# Altium footprint library PASSIVE_THD.PCBLIB: 248 footprints (part 4 of 16)
Each footprint in its own frame and in the unit in brackets; x right, y up, seen from the top. Pads: shape width x height; smd on the part's side, far side on the other; paste and mask are expansions set on the pad; w line width, h text height; cw(c..) or ccw(c..) is an arc to the next point about the centre after c.
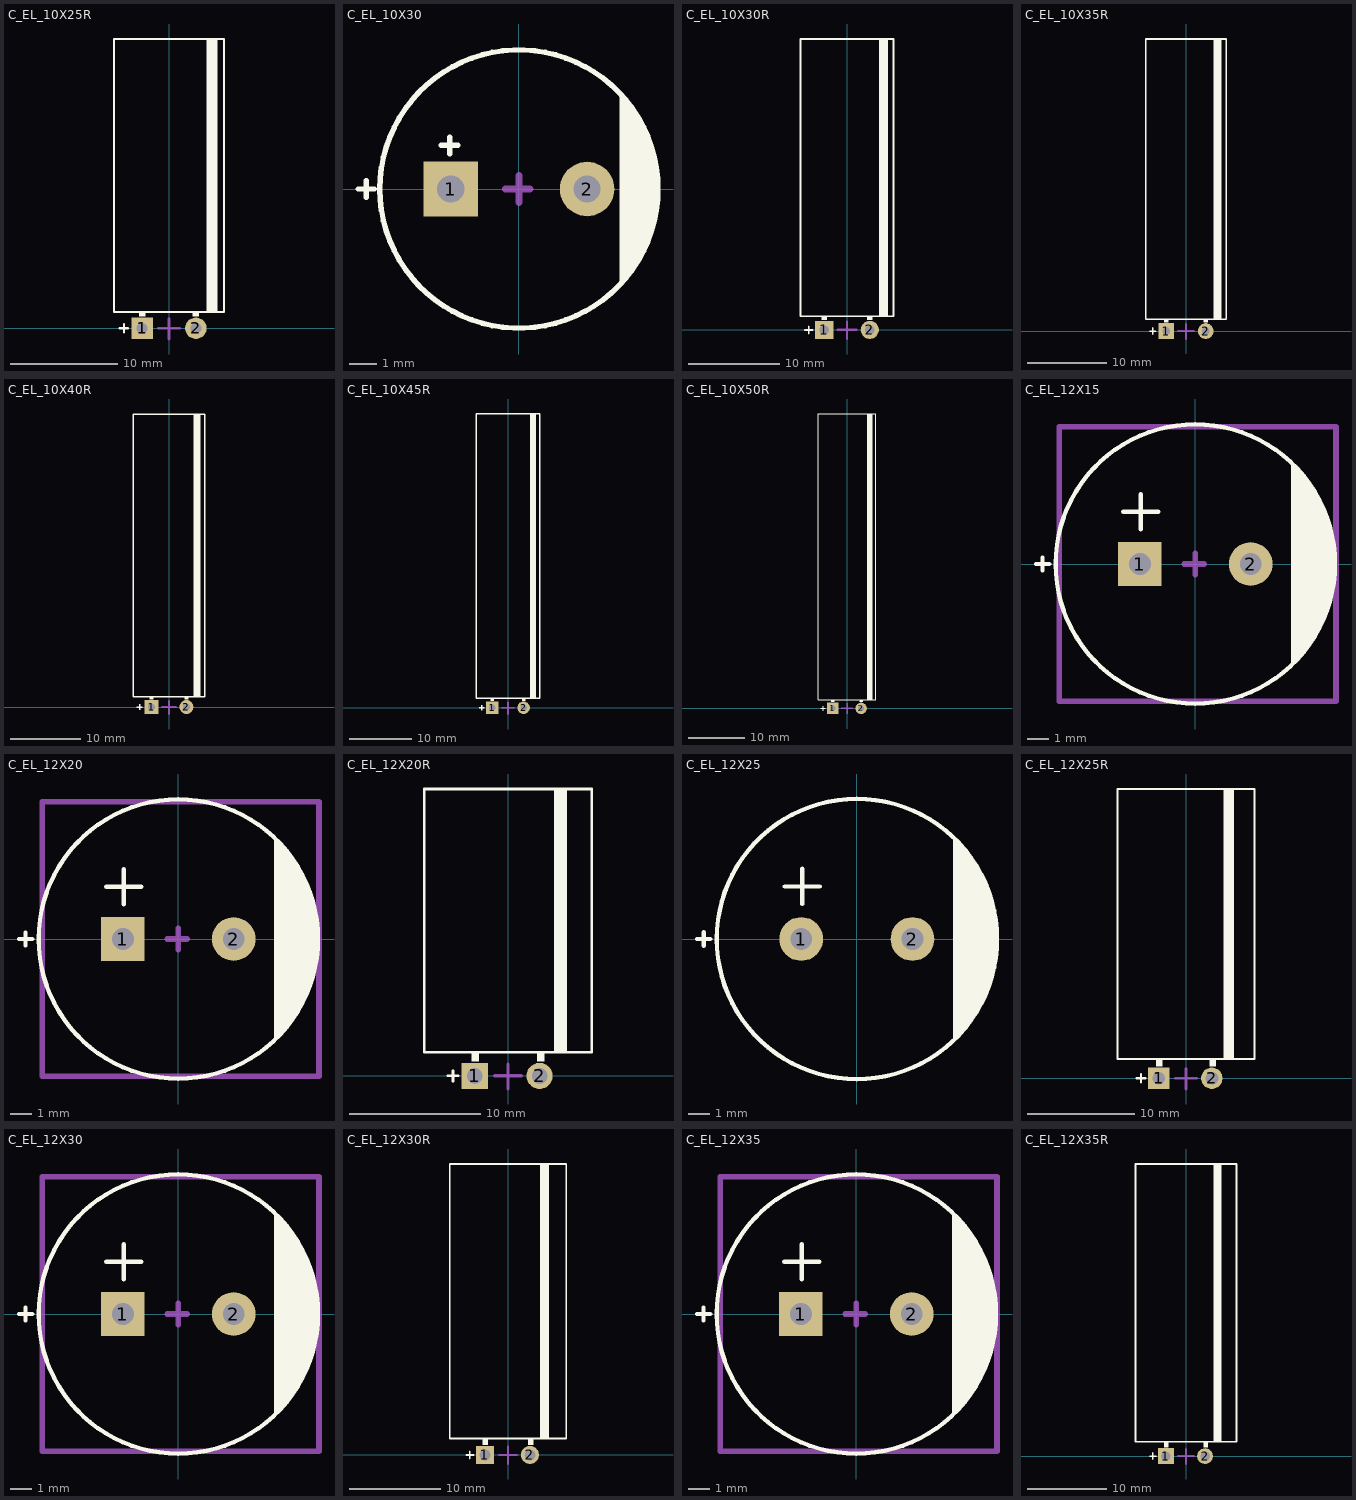
[diagram p3: the footprints below, top view; thin cyan lines are the x and y axes]

## C_EL_10X25R [mm] "Capacitor Electrolythic, D10X25H pitch: 5mm"
height 40
pads (2):
  rect 2x2 hole 1: 1(-2.5,0)
  round 2 hole 1: 2(2.5,0)
TopOverlay:
  rectangle: 3.5,1.5 4.5,26.9
  rectangle: -2.8,1.1 -2.2,1.5
  region: 2.8,1.5 2.2,1.5 2.2,1.1 2.8,1.1
  lines w0.2: -4.6,0 -3.8,0 ; -4.2,-0.4 -4.2,0.4 ; -5.1,1.5 5.1,1.5 5.1,26.9 -5.1,26.9 -5.1,1.5
Mechanical13:
  lines w0.254: -1,0 1,0 ; 0,-1 0,0.9
3D body "cap_el_horizontal_d10_h25_p5_w0.6.stp": height 10.09, standoff -3, extent -5,-0.3 5.003,26.81

## C_EL_10X30 [mm] "Capacitor Electrolythic, D10X30H pitch: 5mm"
height 30
pads (2):
  rect 2x2 hole 1: 1(-2.5,0)
  round 2 hole 1: 2(2.5,0)
TopOverlay:
  circle w0.2: c0,0 r5.1
  region: 3.7,-3.38 3.866,-3.214 4.164,-2.851 4.425,-2.46 4.646,-2.046 4.826,-1.612 4.962,-1.163 5.054,-0.702 5.1,-0.235 5.1,0 3.7,0
  region: 3.7,3.38 3.866,3.214 4.164,2.851 4.425,2.46 4.646,2.046 4.826,1.612 4.962,1.163 5.054,0.702 5.1,0.235 5.1,0 3.7,0
  lines w0.2: -5.9,0 -5.3,0 ; -5.6,-0.3 -5.6,0.3 ; -2.84,1.6 -2.24,1.6 ; -2.54,1.3 -2.54,1.9
Mechanical13:
  lines w0.254: -0.5,0 0.4,0 ; 0,-0.5 0,0.5
3D body "User Library-Cap-EL(10x30-5)T.STEP": height 30.5, standoff -3.5, extent -5,-4.997 5.002,4.998

## C_EL_10X30R [mm] "Capacitor Electrolythic, D10X30H pitch: 5mm"
height 40
pads (2):
  rect 2x2 hole 1: 1(-2.5,0)
  round 2 hole 1: 2(2.5,0)
TopOverlay:
  rectangle: 3.5,1.5 4.5,31.9
  rectangle: -2.8,1.1 -2.2,1.5
  region: 2.8,1.5 2.2,1.5 2.2,1.1 2.8,1.1
  lines w0.2: -4.6,0 -3.8,0 ; -4.2,-0.4 -4.2,0.4 ; -5.1,1.5 5.1,1.5 5.1,31.9 -5.1,31.9 -5.1,1.5
Mechanical13:
  lines w0.254: -1,0 1,0 ; 0,-1 0,0.9
3D body "cap_el_horizontal_d10_h30_p5_w0.6.stp": height 10.09, standoff -3, extent -4.99,-0.3 5.003,31.81

## C_EL_10X35R [mm] "Capacitor Electrolythic, D10X35H pitch: 5mm"
height 40
pads (2):
  rect 2x2 hole 1: 1(-2.5,0)
  round 2 hole 1: 2(2.5,0)
TopOverlay:
  rectangle: 3.5,1.5 4.5,36.9
  rectangle: -2.8,1.1 -2.2,1.5
  region: 2.8,1.5 2.2,1.5 2.2,1.1 2.8,1.1
  lines w0.2: -4.6,0 -3.8,0 ; -4.2,-0.4 -4.2,0.4 ; -5.1,1.5 5.1,1.5 5.1,36.9 -5.1,36.9 -5.1,1.5
Mechanical13:
  lines w0.254: -1,0 1,0 ; 0,-1 0,0.9
3D body "cap_el_horizontal_d10_h35_p5_w0.6.stp": height 10.1, standoff -3, extent -4.99,-0.3 5.003,36.81

## C_EL_10X40R [mm] "Capacitor Electrolythic, D10X40H pitch: 5mm"
height 40
pads (2):
  rect 2x2 hole 1: 1(-2.5,0)
  round 2 hole 1: 2(2.5,0)
TopOverlay:
  region: 2.8,1.5 2.2,1.5 2.2,1.1 2.8,1.1
  rectangle: -2.8,1.1 -2.2,1.5
  rectangle: 3.5,1.5 4.5,41.9
  lines w0.2: -4.6,0 -3.8,0 ; -4.2,-0.4 -4.2,0.4 ; -5.1,1.5 -5.1,41.9 5.1,41.9 5.1,1.5 -5.1,1.5
Mechanical13:
  lines w0.254: -1,0 1,0 ; 0,-1 0,0.9
3D body "cap_el_horizontal_d10_h40_p5_w0.6.stp": height 10.1, standoff -3, extent -4.99,-0.3 5.01,41.81

## C_EL_10X45R [mm] "Capacitor Electrolythic, D10X45H pitch: 5mm"
height 40
pads (2):
  rect 2x2 hole 1: 1(-2.5,0)
  round 2 hole 1: 2(2.5,0)
TopOverlay:
  rectangle: 3.5,1.5 4.5,46.9
  rectangle: -2.8,1.1 -2.2,1.5
  region: 2.8,1.5 2.2,1.5 2.2,1.1 2.8,1.1
  lines w0.2: -4.6,0 -3.8,0 ; -4.2,-0.4 -4.2,0.4 ; -5.1,1.5 5.1,1.5 5.1,46.9 -5.1,46.9 -5.1,1.5
Mechanical13:
  lines w0.254: -1,0 1,0 ; 0,-1 0,0.9
3D body "cap_el_horizontal_d10_h45_p5_w0.6.stp": height 10.09, standoff -3, extent -4.99,-0.3 5.01,46.81

## C_EL_10X50R [mm] "Capacitor Electrolythic, D10X50H pitch: 5mm"
height 40
pads (2):
  rect 2x2 hole 1: 1(-2.5,0)
  round 2 hole 1: 2(2.5,0)
TopOverlay:
  rectangle: 3.5,1.5 4.5,51.9
  rectangle: -2.8,1.1 -2.2,1.5
  region: 2.8,1.5 2.2,1.5 2.2,1.1 2.8,1.1
  lines w0.2: -4.6,0 -3.8,0 ; -4.2,-0.4 -4.2,0.4 ; -5.1,1.5 5.1,1.5 5.1,51.9 -5.1,51.9 -5.1,1.5
Mechanical13:
  lines w0.254: -1,0 1,0 ; 0,-1 0,0.9
3D body "cap_el_horizontal_d10_h50_p5_w0.6.stp": height 10.1, standoff -3, extent -5,-0.3 5.01,51.81

## C_EL_12X15 [mm] "Capacitor Electrolythic, D12.5X15H pitch: 5mm"
height 20
pads (2):
  rect 2x2 hole 1: 1(-2.54,0)
  round 2 hole 1: 2(2.54,0)
TopOverlay:
  circle w0.2: c0,0 r6.4
  region: 4.4,4.7 4.631,4.469 5.045,3.964 5.408,3.421 5.716,2.845 5.966,2.242 6.155,1.617 6.283,0.976 6.347,0.327 6.347,0 4.4,0
  region: 4.4,-4.7 4.631,-4.469 5.045,-3.964 5.408,-3.421 5.716,-2.845 5.966,-2.242 6.155,-1.617 6.283,-0.976 6.347,-0.327 6.347,0 4.4,0
  lines w0.2: -7.3,0 -6.7,0 ; -7,-0.3 -7,0.3 ; -3.3,2.4 -1.7,2.4 ; -2.5,1.6 -2.5,3.2
Mechanical13:
  lines w0.254: -0.5,0 0.4,0 ; 0,-0.5 0,0.5 ; -6.225,-6.3 -6.225,6.3 6.45,6.3 6.45,-6.3 -6.225,-6.3
3D body "CAP_RAD_D12.5x15_POL_BK.stp": height 16.5, standoff -2.5, extent -6.488,-6.49 6.5,6.491

## C_EL_12X20 [mm] "Capacitor Electrolythic, D12.5X20H pitch: 5mm"
height 20
pads (2):
  rect 2x2 hole 1: 1(-2.54,0)
  round 2 hole 1: 2(2.54,0)
TopOverlay:
  circle w0.2: c0,0 r6.4
  region: 4.4,4.7 4.631,4.469 5.045,3.964 5.408,3.421 5.716,2.845 5.966,2.242 6.155,1.617 6.283,0.976 6.347,0.327 6.347,0 4.4,0
  region: 4.4,-4.7 4.631,-4.469 5.045,-3.964 5.408,-3.421 5.716,-2.845 5.966,-2.242 6.155,-1.617 6.283,-0.976 6.347,-0.327 6.347,0 4.4,0
  lines w0.2: -7.3,0 -6.7,0 ; -7,-0.3 -7,0.3 ; -3.3,2.4 -1.7,2.4 ; -2.5,1.6 -2.5,3.2
Mechanical13:
  lines w0.254: -0.5,0 0.4,0 ; 0,-0.5 0,0.5 ; -6.225,-6.3 -6.225,6.3 6.45,6.3 6.45,-6.3 -6.225,-6.3
3D body "User Library-Cap-EL(12_5x20-5)T.STEP": height 20.7, standoff -3.3, extent -6.25,-6.241 6.252,6.241

## C_EL_12X20R [mm] "Capacitor Electrolythic, D12.5X20H pitch: 5mm"
height 40
pads (2):
  rect 2x2 hole 1.2: 1(-2.54,0)
  round 2 hole 1.2: 2(2.413,0)
TopOverlay:
  region: 2.8,1.8 2.2,1.8 2.2,1.1 2.8,1.1
  rectangle: -2.8,1.1 -2.2,1.8
  rectangle: 3.5,1.8 4.5,21.9
  lines w0.2: -4.6,0 -3.8,0 ; -4.2,-0.4 -4.2,0.4 ; -6.4,1.8 -6.4,21.9 6.4,21.9 6.4,1.8 -6.4,1.8
Mechanical13:
  lines w0.254: -1,0 1,0 ; 0,-1 0,0.9
3D body "cap_el_horizontal_d12.5_h20_p5_w0.6.stp": height 12.6, standoff -3, extent -6.242,-0.3 6.26,21.81

## C_EL_12X25 [mm] "Cap Elec, D12.0X25.0H pitch: 5.0mm, RB.2/.5"
pads (2):
  round 2 hole 1: 1(-2.54,0) 2(2.54,0)
TopOverlay:
  circle w0.2: c0,0 r6.4
  region: 4.4,-4.7 4.631,-4.469 5.045,-3.964 5.408,-3.421 5.716,-2.845 5.966,-2.242 6.155,-1.617 6.283,-0.976 6.347,-0.327 6.347,0 4.4,0
  region: 4.4,4.7 4.631,4.469 5.045,3.964 5.408,3.421 5.716,2.845 5.966,2.242 6.155,1.617 6.283,0.976 6.347,0.327 6.347,0 4.4,0
  lines w0.2: -7.3,0 -6.7,0 ; -7,-0.3 -7,0.3 ; -3.3,2.4 -1.7,2.4 ; -2.5,1.6 -2.5,3.2
3D body "User Library-Cap-EL(12_5x25-5)T.step": height 25.8, standoff -3.2, extent -6.25,-6.273 6.252,6.211

## C_EL_12X25R [mm] "Capacitor Electrolythic, D12.5X25H pitch: 5mm"
height 40
pads (2):
  rect 2x2 hole 1.2: 1(-2.54,0)
  round 2 hole 1.2: 2(2.413,0)
TopOverlay:
  region: 2.8,1.8 2.2,1.8 2.2,1.1 2.8,1.1
  rectangle: -2.8,1.1 -2.2,1.8
  rectangle: 3.5,1.8 4.5,27
  lines w0.2: -4.6,0 -3.8,0 ; -4.2,-0.4 -4.2,0.4 ; -6.4,1.8 -6.4,27 6.4,27 6.4,1.8 -6.4,1.8
Mechanical13:
  lines w0.254: -1,0 1,0 ; 0,-1 0,0.9
3D body "cap_el_horizontal_d12.5_h25_p5_w0.6.stp": height 12.59, standoff -3, extent -6.242,-0.3 6.26,26.81

## C_EL_12X30 [mm] "Capacitor Electrolythic, D12.5X30H pitch: 5mm"
height 25
pads (2):
  rect 2x2 hole 1: 1(-2.54,0)
  round 2 hole 1: 2(2.54,0)
TopOverlay:
  circle w0.2: c0,0 r6.4
  region: 4.4,-4.7 4.631,-4.469 5.045,-3.964 5.408,-3.421 5.716,-2.845 5.966,-2.242 6.155,-1.617 6.283,-0.976 6.347,-0.327 6.347,0 4.4,0
  region: 4.4,4.7 4.631,4.469 5.045,3.964 5.408,3.421 5.716,2.845 5.966,2.242 6.155,1.617 6.283,0.976 6.347,0.327 6.347,0 4.4,0
  lines w0.2: -7.3,0 -6.7,0 ; -7,-0.3 -7,0.3 ; -3.3,2.4 -1.7,2.4 ; -2.5,1.6 -2.5,3.2
Mechanical13:
  lines w0.254: -0.5,0 0.4,0 ; 0,-0.5 0,0.5 ; -6.225,-6.3 -6.225,6.3 6.45,6.3 6.45,-6.3 -6.225,-6.3
3D body "cap_el_vertical_d12.5_h30_p5_w0.6.stp": height 30.01, standoff -3, extent -6.24,-6.236 6.251,6.236

## C_EL_12X30R [mm] "Capacitor Electrolythic, D12.5X30H pitch: 5mm"
height 40
pads (2):
  rect 2x2 hole 1.2: 1(-2.54,0)
  round 2 hole 1.2: 2(2.413,0)
TopOverlay:
  rectangle: 3.5,1.8 4.5,32
  rectangle: -2.8,1.1 -2.2,1.8
  region: 2.8,1.8 2.2,1.8 2.2,1.1 2.8,1.1
  lines w0.2: -4.6,0 -3.8,0 ; -4.2,-0.4 -4.2,0.4 ; -6.4,1.8 6.4,1.8 6.4,32 -6.4,32 -6.4,1.8
Mechanical13:
  lines w0.254: -1,0 1,0 ; 0,-1 0,0.9
3D body "cap_el_horizontal_d12.5_h30_p5_w0.6.stp": height 12.59, standoff -3, extent -6.24,-0.3 6.251,31.81

## C_EL_12X35 [mm] "Capacitor Electrolythic, D12.5X35H pitch: 5mm"
height 25
pads (2):
  rect 2x2 hole 1: 1(-2.54,0)
  round 2 hole 1: 2(2.54,0)
TopOverlay:
  circle w0.2: c0,0 r6.4
  region: 4.4,-4.7 4.631,-4.469 5.045,-3.964 5.408,-3.421 5.716,-2.845 5.966,-2.242 6.155,-1.617 6.283,-0.976 6.347,-0.327 6.347,0 4.4,0
  region: 4.4,4.7 4.631,4.469 5.045,3.964 5.408,3.421 5.716,2.845 5.966,2.242 6.155,1.617 6.283,0.976 6.347,0.327 6.347,0 4.4,0
  lines w0.2: -7.3,0 -6.7,0 ; -7,-0.3 -7,0.3 ; -3.3,2.4 -1.7,2.4 ; -2.5,1.6 -2.5,3.2
Mechanical13:
  lines w0.254: -0.5,0 0.4,0 ; 0,-0.5 0,0.5 ; -6.225,-6.3 -6.225,6.3 6.45,6.3 6.45,-6.3 -6.225,-6.3
3D body "cap_el_vertical_d12.5_h35_p5_w0.6.stp": height 35.01, standoff -3, extent -6.25,-6.249 6.251,6.249

## C_EL_12X35R [mm] "Capacitor Electrolythic, D12.5X35H pitch: 5mm"
height 40
pads (2):
  rect 2x2 hole 1.2: 1(-2.54,0)
  round 2 hole 1.2: 2(2.413,0)
TopOverlay:
  rectangle: 3.5,1.8 4.5,37
  rectangle: -2.8,1.1 -2.2,1.8
  region: 2.8,1.8 2.2,1.8 2.2,1.1 2.8,1.1
  lines w0.2: -4.6,0 -3.8,0 ; -4.2,-0.4 -4.2,0.4 ; -6.4,1.8 6.4,1.8 6.4,37 -6.4,37 -6.4,1.8
Mechanical13:
  lines w0.254: -1,0 1,0 ; 0,-1 0,0.9
3D body "cap_el_horizontal_d12.5_h35_p5_w0.6.stp": height 12.6, standoff -3, extent -6.242,-0.3 6.251,36.81